# EAGLE library part BNO055 (library CougsInSpace-Sensors)
9-DOF IMU BMO055 <https://github.com/CougsInSpace/Resources/blob/master/SupplierDocuments/Bosch/BMO055.pdf>
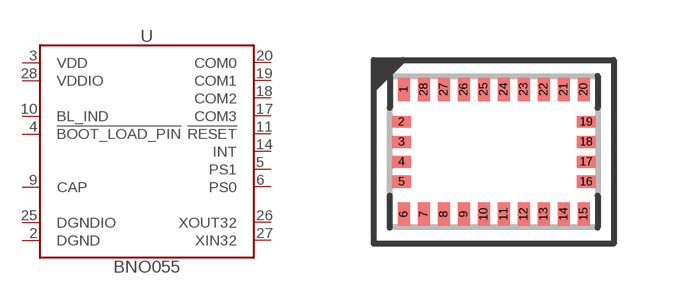
[diagram p1: symbol with the pads of LGA-28-4050; footprint LGA-28-4050]

Designator prefix U

## BNO055 (SKU: 66-0002; VALUE: BNO055)  [LGA-28-4050]
2  DGND  pwr
3  VDD  pwr
4  !BOOT_LOAD_PIN  in
5  PS1  in
6  PS0  in
9  CAP  pas
10  BL_IND  out
11  !RESET  in
14  INT  out
17  COM3
18  COM2
19  COM1
20  COM0
25  DGNDIO  pwr
26  XOUT32  out
27  XIN32  in
28  VDDIO  pwr

## Footprint LGA-28-4050 (pad centres in mm)
Land Grid Array (LGA) - 28 Pins - 4.0 x 5.0 mm
smd 0.3 x 0.575: 1 -2.25,1.562; 6 -2.25,-1.562; 7 -1.75,-1.562; 8 -1.25,-1.562; 9 -0.75,-1.562; 10 -0.25,-1.562; 11 0.25,-1.562; 12 0.75,-1.562; 13 1.25,-1.562; 14 1.75,-1.562; 15 2.25,-1.562; 20 2.25,1.562; 21 1.75,1.562; 22 1.25,1.562; 23 0.75,1.562; 24 0.25,1.562; 25 -0.25,1.562; 26 -0.75,1.562; 27 -1.25,1.562; 28 -1.75,1.562
smd 0.475 x 0.3: 2 -2.312,0.75; 3 -2.312,0.25; 4 -2.312,-0.25; 5 -2.312,-0.75; 16 2.312,-0.75; 17 2.312,-0.25; 18 2.312,0.25; 19 2.312,0.75